# Altium schematic symbol library Schematic_Capacitors.SchLib: 1 symbol
Pins are listed as number, name and electrical type; pins without a type are passive.

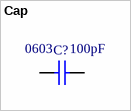
[diagram p0: symbol Cap]

## Cap
designator C?  value 100pF  PackageDescription: 0603
Capacitor
simulation model CAP (Capacitor)
signal-integrity model Cap
footprint CAPC3225X16N (1210, Chip Capacitor, 2-Leads, Body 3.20x2.50mm, IPC Medium Density)
footprint CAPC2012X15N (0805 Chip Capacitor, 2-Leads, Body 2.01x1.25mm, IPC Medium Density)
footprint CAPC1608X10N (0603 Chip Capacitor, 2-Leads, Body 1.60x0.81mm, IPC Medium Density)
footprint CAPC1005X07N (0402 Chip Capacitor, 2-Leads, Body 1.00x0.50mm, IPC Medium Density)
pins: 1, 2